# Altium footprint library x-MOLX_472192001.PcbLib: 1 footprints
Each footprint in its own frame and in the unit in brackets; x right, y up, seen from the top. Pads: shape width x height; smd on the part's side, far side on the other; paste and mask are expansions set on the pad; w line width, h text height; cw(c..) or ccw(c..) is an arc to the next point about the centre after c.
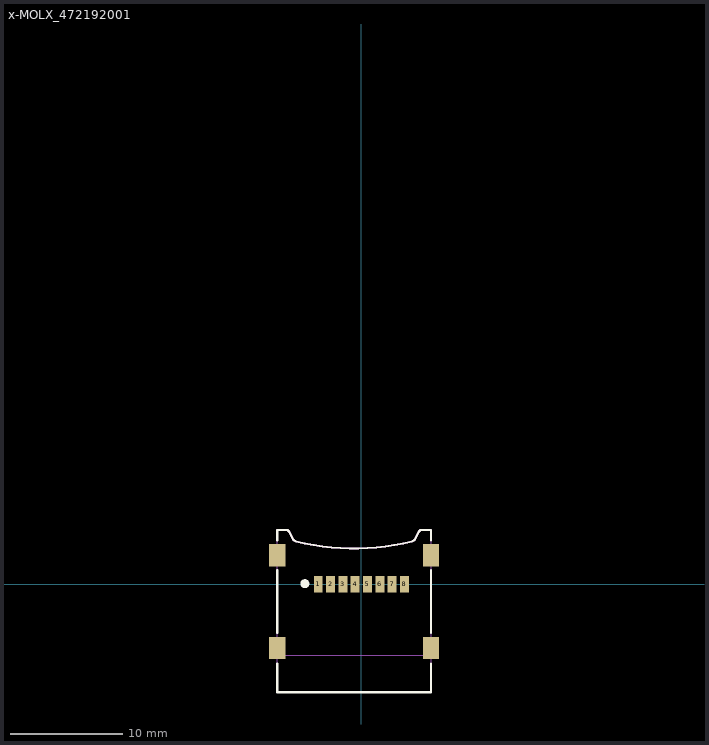
[diagram p0: the footprint, top view; thin cyan lines are the x and y axes]

## x-MOLX_472192001 [mm] "TFR Reader Hinge Type (Micro SD Card)"
height 1.9
pads (12):
  rect 0.8x1.5 smd: 1(-3.85,0) 2(-2.75,0) 3(-1.65,0) 4(-0.55,0) 5(0.55,0) 6(1.65,0) 7(2.75,0) 8(3.85,0)
  rect 1.45x2 smd: MOUNT1(6.23,-5.7) MOUNT2(6.23,2.6) MOUNT3(-7.52,2.6) MOUNT4(-7.52,-5.7)
Top Overlay:
  circle w0.4: c-5.05,0.05 r0.2
  lines w0.2: -7.52,-7.1 -7.52,-9.65 6.23,-9.65 6.23,-7.1 ; -7.52,-4.35 -7.52,1.25 ; -7.52,3.9 -7.52,4.85 -6.661,4.85 ; -6.679,4.85 cw(c-6.669,4.64) -6.472,4.714 -6.159,4.1 ; -6.159,4.1 ccw(c-5.634,4.375) -5.84,3.819 ccw(c-0.654,25.217) 4.531,3.819 ccw(c4.325,4.375) 4.85,4.1 5.163,4.714 cw(c5.36,4.64) 5.371,4.85 6.23,4.85 6.23,3.9 ; 6.23,-4.35 6.23,1.25
Mechanical 13:
  lines w0.1: -7.52,-6.35 6.23,-6.35 ; -7.52,4.85 -7.52,-9.65 6.23,-9.65 6.23,2.6 6.23,4.85
  lines w0.2: -7.52,4.85 -6.661,4.85 ; -6.679,4.85 cw(c-6.669,4.64) -6.472,4.714 -6.159,4.1 ; -6.159,4.1 ccw(c-5.634,4.375) -5.84,3.819 ccw(c-0.654,25.217) 4.531,3.819 ccw(c4.325,4.375) 4.85,4.1 5.163,4.714 cw(c5.36,4.64) 5.371,4.85 6.23,4.85
3D body: height 1.87, standoff -0.03, extent -8,-9.65 6.6,4.85